# Altium footprint library fc_components_pcb_lib.PcbLib: 22 footprints (part 2 of 2)
Each footprint in its own frame and in the unit in brackets; x right, y up, seen from the top. Pads: shape width x height; smd on the part's side, far side on the other; paste and mask are expansions set on the pad; w line width, h text height; cw(c..) or ccw(c..) is an arc to the next point about the centre after c.
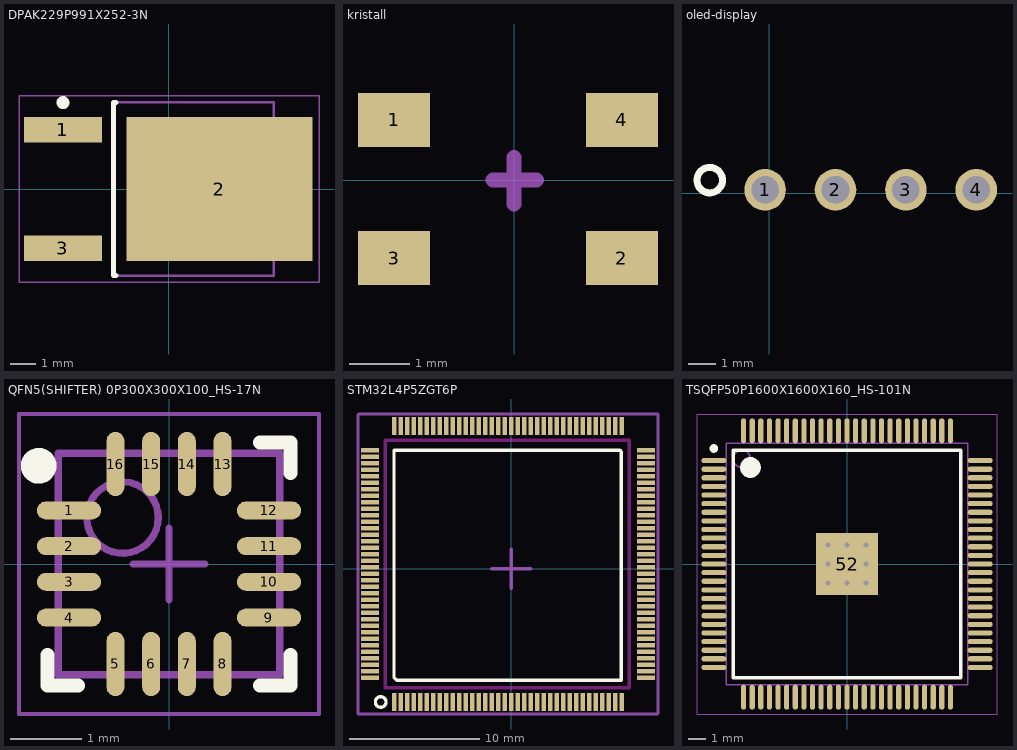
[diagram p1: the footprints below, top view; thin cyan lines are the x and y axes]

## DPAK229P991X252-3N [mm] "D-PAK, 3-Pads, Body 6,20x6,71mm (max), IPC Medium Density"
height 2.52
pads (3):
  rect 3x1 smd: 1(-4.1,2.29) 3(-4.1,-2.29)
  rect 7.2x5.55 smd: 2(1.95,0)
Top Overlay:
  circle w0.25: c-4.1,3.34 r0.125
  lines w0.2: -2.05,-3.35 -2.15,-3.35 -2.15,3.35 -2.05,3.35
Mechanical 13:
  lines w0.1: -2.15,-3.35 -2.15,3.35 4.05,3.35 4.05,-3.35 -2.15,-3.35
Mechanical 15:
  lines w0.05: -5.8,-3.6 -5.8,3.6 5.8,3.6 5.8,-3.6 -5.8,-3.6
  lines w0.1: -0.5,0 0.5,0 ; 0,-0.5 0,0.5
3D body: height 2.52, standoff 0, extent -2.15,-3.35 4.05,3.35

## kristall [mm]
pads (4):
  rect 1.2x0.9 smd: 1(-2,1) 2(1.8,-1.3) 3(-2,-1.3) 4(1.8,1)
Mechanical 15:
  lines w0.254: -0.35,0 0.375,0 ; 0,-0.4 0,0 0,0.375
3D body: height 0.45, standoff 0, extent -2.7,-1.85 2.5,1.55

## oled-display [mm]
pads (4):
  round 1.5 hole 1: 1(-0.15,0.125) 2(2.39,0.125) 3(4.93,0.125) 4(7.47,0.125)
Top Overlay:
  circle w0.254: c-2.15,0.475 r0.46
  pour cut-out: -0.15,0.225
3D body: height 3, standoff 2, extent -4.225,-25.3 11.475,-1.05
3D body: height 3.5, standoff 3, extent -2.975,-24.025 10.225,-2.95

## QFN5(SHIFTER) 0P300X300X100_HS-17N [mm] "QFN, 16-Leads, Body 3,00x3,00mm, Pitch 0,50mm, Thermal Pad 1,50x1,50mm, IPC Medium Density"
height 1
pads (16):
  oval 0.9x0.25 smd mask+0.13: 1(-1.4,0.75) 2(-1.4,0.25) 3(-1.4,-0.25) 4(-1.4,-0.75) 9(1.4,-0.75) 10(1.4,-0.25) 11(1.4,0.25) 12(1.4,0.75)
  oval 0.25x0.9 smd mask+0.13: 5(-0.75,-1.4) 6(-0.25,-1.4) 7(0.25,-1.4) 8(0.75,-1.4) 13(0.75,1.4) 14(0.25,1.4) 15(-0.25,1.4) 16(-0.75,1.4)
Top Overlay:
  circle w0.25: c-1.825,1.375 r0.125
  lines w0.2: -1.7,-1.275 -1.7,-1.7 -1.275,-1.7 ; 1.275,-1.7 1.7,-1.7 1.7,-1.275 ; 1.275,1.7 1.7,1.7 1.7,1.275
Mechanical 13:
  circle w0.1: c-0.65,0.65 r0.5
  lines w0.1: -1.55,-1.55 -1.55,1.55 1.55,1.55 1.55,-1.55 -1.55,-1.55
Mechanical 15:
  lines w0.05: -2.1,-2.1 -2.1,2.1 2.1,2.1 2.1,-2.1 -2.1,-2.1
  lines w0.1: -0.5,0 0.5,0 ; 0,-0.5 0,0.5
3D body: height 1, standoff 0.05, extent -1.55,-1.55 1.55,1.55

## STM32L4P5ZGT6P [mm]
pads (144):
  rect 0.35x1.35 smd: 1(-9,-10.25) 2(-8.5,-10.25) 3(-8,-10.25) 4(-7.5,-10.25) 5(-7,-10.25) 6(-6.5,-10.25) 7(-6,-10.25) 8(-5.5,-10.25) 9(-5,-10.25) 10(-4.5,-10.25) 11(-4,-10.25) 12(-3.5,-10.25) 13(-3,-10.25) 14(-2.5,-10.25) 15(-2,-10.25) 16(-1.5,-10.25) 17(-1,-10.25) 18(-0.5,-10.25) 19(0,-10.25) 20(0.5,-10.25) 21(1,-10.25) 22(1.5,-10.25) 23(2,-10.25) 24(2.5,-10.25) 25(3,-10.25) 26(3.5,-10.25) 27(4,-10.25) 28(4.5,-10.25) 29(5,-10.25) 30(5.5,-10.25) 31(6,-10.25) 32(6.5,-10.25) 33(7,-10.25) 34(7.5,-10.25) 35(8,-10.25) 36(8.5,-10.25) 73(8.5,11) 74(8,11) 75(7.5,11) 76(7,11) 77(6.5,11) 78(6,11) 79(5.5,11) 80(5,11) 81(4.5,11) 82(4,11) 83(3.5,11) 84(3,11) 85(2.5,11) 86(2,11) 87(1.5,11) 88(1,11) 89(0.5,11) 90(0,11) 91(-0.5,11) 92(-1,11) 93(-1.5,11) 94(-2,11) 95(-2.5,11) 96(-3,11) 97(-3.5,11) 98(-4,11) 99(-4.5,11) 100(-5,11) 101(-5.5,11) 102(-6,11) 103(-6.5,11) 104(-7,11) 105(-7.5,11) 106(-8,11) 107(-8.5,11) 108(-9,11)
  rect 1.35x0.35 smd: 37(10.375,-8.375) 38(10.375,-7.875) 39(10.375,-7.375) 40(10.375,-6.875) 41(10.375,-6.375) 42(10.375,-5.875) 43(10.375,-5.375) 44(10.375,-4.875) 45(10.375,-4.375) 46(10.375,-3.875) 47(10.375,-3.375) 48(10.375,-2.875) 49(10.375,-2.375) 50(10.375,-1.875) 51(10.375,-1.375) 52(10.375,-0.875) 53(10.375,-0.375) 54(10.375,0.125) 55(10.375,0.625) 56(10.375,1.125) 57(10.375,1.625) 58(10.375,2.125) 59(10.375,2.625) 60(10.375,3.125) 61(10.375,3.625) 62(10.375,4.125) 63(10.375,4.625) 64(10.375,5.125) 65(10.375,5.625) 66(10.375,6.125) 67(10.375,6.625) 68(10.375,7.125) 69(10.375,7.625) 70(10.375,8.125) 71(10.375,8.625) 72(10.375,9.125) 109(-10.875,9.125) 110(-10.875,8.625) 111(-10.875,8.125) 112(-10.875,7.625) 113(-10.875,7.125) 114(-10.875,6.625) 115(-10.875,6.125) 116(-10.875,5.625) 117(-10.875,5.125) 118(-10.875,4.625) 119(-10.875,4.125) 120(-10.875,3.625) 121(-10.875,3.125) 122(-10.875,2.625) 123(-10.875,2.125) 124(-10.875,1.625) 125(-10.875,1.125) 126(-10.875,0.625) 127(-10.875,0.125) 128(-10.875,-0.375) 129(-10.875,-0.875) 130(-10.875,-1.375) 131(-10.875,-1.875) 132(-10.875,-2.375) 133(-10.875,-2.875) 134(-10.875,-3.375) 135(-10.875,-3.875) 136(-10.875,-4.375) 137(-10.875,-4.875) 138(-10.875,-5.375) 139(-10.875,-5.875) 140(-10.875,-6.375) 141(-10.875,-6.875) 142(-10.875,-7.375) 143(-10.875,-7.875) 144(-10.875,-8.375)
Top Layer keep-out:
  lines w0.254: -9.7,-9.15 9.075,-9.15 9.075,9.175 9.075,9.9 -8.875,9.9 -9.7,9.9 -9.7,-9.15
Top Overlay:
  circle w0.254: c-10.05,-10.25 r0.41
  lines w0.254: -9.025,-8.375 -8.825,-8.575 8.475,-8.575 8.475,9.025 8.375,9.125 -9.025,9.125 -9.025,-8.375
Mechanical 15:
  lines w0.254: -11.8,8.05 -11.8,11.85 -11.725,11.925 11.3,11.925 11.3,11.875 11.3,-11.125 11.25,-11.175 -11.8,-11.175 ; -11.8,8.275 -11.8,7.825 -11.8,-11.175 ; -7.125,11.925 -6.975,11.925 ; -1.5,0 1.5,0 ; 0,-1.5 0,1.5 ; 4.5,-11.175 4.75,-11.175 ; 11.3,8.275 11.3,8.5 ; -11.8,-11.175 -11.8,-11.175
3D body: height 1, standoff 0, extent -9.025,-8.55 8.5,9.1

## TSQFP50P1600X1600X160_HS-101N [mm] "TSQFP, 100-Leads, Body 14,00x14,00mm, Pitch 0,50mm, Thermal Pad 3,61x3,61mm, IPC Medium Density"
height 1.6
pads (101):
  oval 1.45x0.3 smd: 1(-7.725,6) 2(-7.725,5.5) 3(-7.725,5) 4(-7.725,4.5) 5(-7.725,4) 6(-7.725,3.5) 7(-7.725,3) 8(-7.725,2.5) 9(-7.725,2) 10(-7.725,1.5) 11(-7.725,1) 12(-7.725,0.5) 13(-7.725,0) 14(-7.725,-0.5) 15(-7.725,-1) 16(-7.725,-1.5) 17(-7.725,-2) 18(-7.725,-2.5) 19(-7.725,-3) 20(-7.725,-3.5) 21(-7.725,-4) 22(-7.725,-4.5) 23(-7.725,-5) 24(-7.725,-5.5) 25(-7.725,-6) 51(7.725,-6) 52(7.725,-5.5) 53(7.725,-5) 54(7.725,-4.5) 55(7.725,-4) 56(7.725,-3.5) 57(7.725,-3) 58(7.725,-2.5) 59(7.725,-2) 60(7.725,-1.5) 61(7.725,-1) 62(7.725,-0.5) 63(7.725,0) 64(7.725,0.5) 65(7.725,1) 66(7.725,1.5) 67(7.725,2) 68(7.725,2.5) 69(7.725,3) 70(7.725,3.5) 71(7.725,4) 72(7.725,4.5) 73(7.725,5) 74(7.725,5.5) 75(7.725,6)
  oval 0.3x1.45 smd: 26(-6,-7.725) 27(-5.5,-7.725) 28(-5,-7.725) 29(-4.5,-7.725) 30(-4,-7.725) 31(-3.5,-7.725) 32(-3,-7.725) 33(-2.5,-7.725) 34(-2,-7.725) 35(-1.5,-7.725) 36(-1,-7.725) 37(-0.5,-7.725) 38(0,-7.725) 39(0.5,-7.725) 40(1,-7.725) 41(1.5,-7.725) 42(2,-7.725) 43(2.5,-7.725) 44(3,-7.725) 45(3.5,-7.725) 46(4,-7.725) 47(4.5,-7.725) 48(5,-7.725) 49(5.5,-7.725) 50(6,-7.725) 76(6,7.725) 77(5.5,7.725) 78(5,7.725) 79(4.5,7.725) 80(4,7.725) 81(3.5,7.725) 82(3,7.725) 83(2.5,7.725) 84(2,7.725) 85(1.5,7.725) 86(1,7.725) 87(0.5,7.725) 88(0,7.725) 89(-0.5,7.725) 90(-1,7.725) 91(-1.5,7.725) 92(-2,7.725) 93(-2.5,7.725) 94(-3,7.725) 95(-3.5,7.725) 96(-4,7.725) 97(-4.5,7.725) 98(-5,7.725) 99(-5.5,7.725) 100(-6,7.725)
  rect 3.6x3.6 smd: 52(0,0)
via 1.1,-1.1 diameter 0.6 hole 0.3
via 0,-1.1 diameter 0.6 hole 0.3
via -1.1,-1.1 diameter 0.6 hole 0.3
via 1.1,0 diameter 0.6 hole 0.3
via 1.1,1.1 diameter 0.6 hole 0.3
via -1.1,0 diameter 0.6 hole 0.3
via 0,1.1 diameter 0.6 hole 0.3
via -1.1,1.1 diameter 0.6 hole 0.3
Top Overlay:
  circle w0.6: c-5.6,5.6 r0.3
  circle w0.25: c-7.725,6.7 r0.125
  lines w0.2: -6.6,-6.6 6.6,-6.6 6.6,6.6 -6.6,6.6 -6.6,-6.6
Mechanical 13:
  circle w0.1: c-6.1,6.1 r0.5
  lines w0.1: -7,-7 7,-7 7,7 -7,7 -7,-7
Mechanical 15:
  lines w0.05: -8.7,-8.7 8.7,-8.7 8.7,8.7 -8.7,8.7 -8.7,-8.7
  lines w0.1: -0.5,0 0.5,0 ; 0,-0.5 0,0.5
3D body: height 1.6, standoff 0.05, extent -7,-7 7,7